# Altium schematic symbol library 库1.SchLib: 2 symbols
Pins are listed as number, name and electrical type; pins without a type are passive.

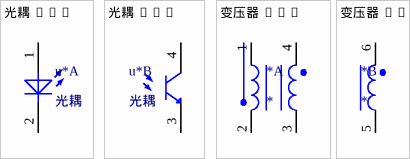
[diagram p0: symbols 光耦 to 变压器]

## 光耦
designator u*
footprint DIP-4 (淘宝ID:黄晶宝石   店铺网址:https://shop463601444.taobao.com)
part A pins: 1, 2
part B pins: 3, 4

## 变压器
designator *
part A pins: 1, 2, 3, 4
part B pins: 5, 6